# Altium schematic symbol library 0603 16K.Schlib: 1 symbol
Pins are listed as number, name and electrical type; pins without a type are passive.

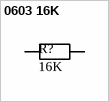
[diagram p0: symbol 0603 16K]

## 0603 16K
designator R?, comment value 16K  (hidden comment: Resistor)
16K ±1% 1/10W ±100ppm/°C 0603 Chip Resistor - Surface Mount RoHS; LCSC Part #: C22818
footprint RES 0603_1608 (Chip Resistor, 2-Leads, Body 1.60x0.80mm, IPC Medium Density)
pins: 1, 2